# EAGLE library part FLASH (library pimoroni-ics)
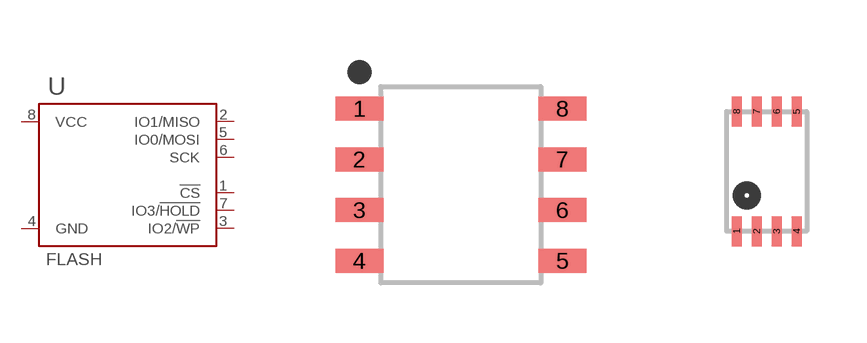
[diagram p42: symbol with the pads of SOIC8-150MIL; footprints SOIC8-150MIL, UDFN-2X3-8]

Designator prefix U

## FLASH  [SOIC8-150MIL]
1  !CS
2  IO1/MISO
3  IO2/!WP
4  GND
5  IO0/MOSI
6  SCK
7  IO3/!HOLD
8  VCC

## FLASHUDFN  [UDFN-2X3-8]
Pads as for SOIC8-150MIL

## FLASH3X4MM  [UDFN-3X4-8]
1  !CS
2  IO1/MISO
3  IO2/!WP
4  GND
5  IO0/MOSI
6  SCK
7  IO3/!HOLD
8  VCC
PAD  GND

## FLASHXSON8  [XSON8-4X4]
Pads as for SOIC8-150MIL

## FLASHDFN8-6X5  [DFN-8_6X5MM]
Pads as for UDFN-3X4-8

## FLASHUSON8-2X3  [USON8-2X3MM]
Pads as for SOIC8-150MIL

## Footprint SOIC8-150MIL (pad centres in mm)
smd 1.2 x 0.6: 1 -2.54,1.905; 2 -2.54,0.635; 3 -2.54,-0.635; 4 -2.54,-1.905; 5 2.54,-1.905; 6 2.54,-0.635; 7 2.54,0.635; 8 2.54,1.905

## Footprint UDFN-2X3-8 (pad centres in mm)
smd 0.25 x 0.75: 1 -0.75,-1.5; 2 -0.25,-1.5; 3 0.25,-1.5; 4 0.75,-1.5; 5 0.75,1.5; 6 0.25,1.5; 7 -0.25,1.5; 8 -0.75,1.5

## Footprint UDFN-3X4-8 (pad centres in mm)
smd 0.9 x 0.3: 1 -1.3,1.2; 2 -1.3,0.4; 3 -1.3,-0.4; 4 -1.3,-1.2; 5 1.3,-1.2; 6 1.3,-0.4; 7 1.3,0.4; 8 1.3,1.2
smd 0.2 x 2.4: PAD 0,0

## Footprint XSON8-4X4 (pad centres in mm)
smd 0.8 x 0.35: 1 -2,1.2; 2 -2,0.4; 3 -2,-0.4; 4 -2,-1.2; 5 2,-1.2; 6 2,-0.4; 7 2,0.4; 8 2,1.2

## Footprint DFN-8_6X5MM (pad centres in mm)
smd 1.1 x 0.45: 1 -3.175,1.905; 2 -3.175,0.635; 3 -3.175,-0.635; 4 -3.175,-1.905; 5 3.175,-1.905; 6 3.175,-0.635; 7 3.175,0.635; 8 3.175,1.905
smd 3.2 x 3.2: PAD 0,0

## Footprint USON8-2X3MM (pad centres in mm)
smd 0.24 x 0.8: 1 -0.75,-1.5; 2 -0.25,-1.5; 3 0.25,-1.5; 4 0.75,-1.5; 5 0.75,1.5; 6 0.25,1.5; 7 -0.25,1.5; 8 -0.75,1.5